# Altium integrated library TI Data Converters Analog to Digital Converter.IntLib: 2198 symbols (part 152 of 164)
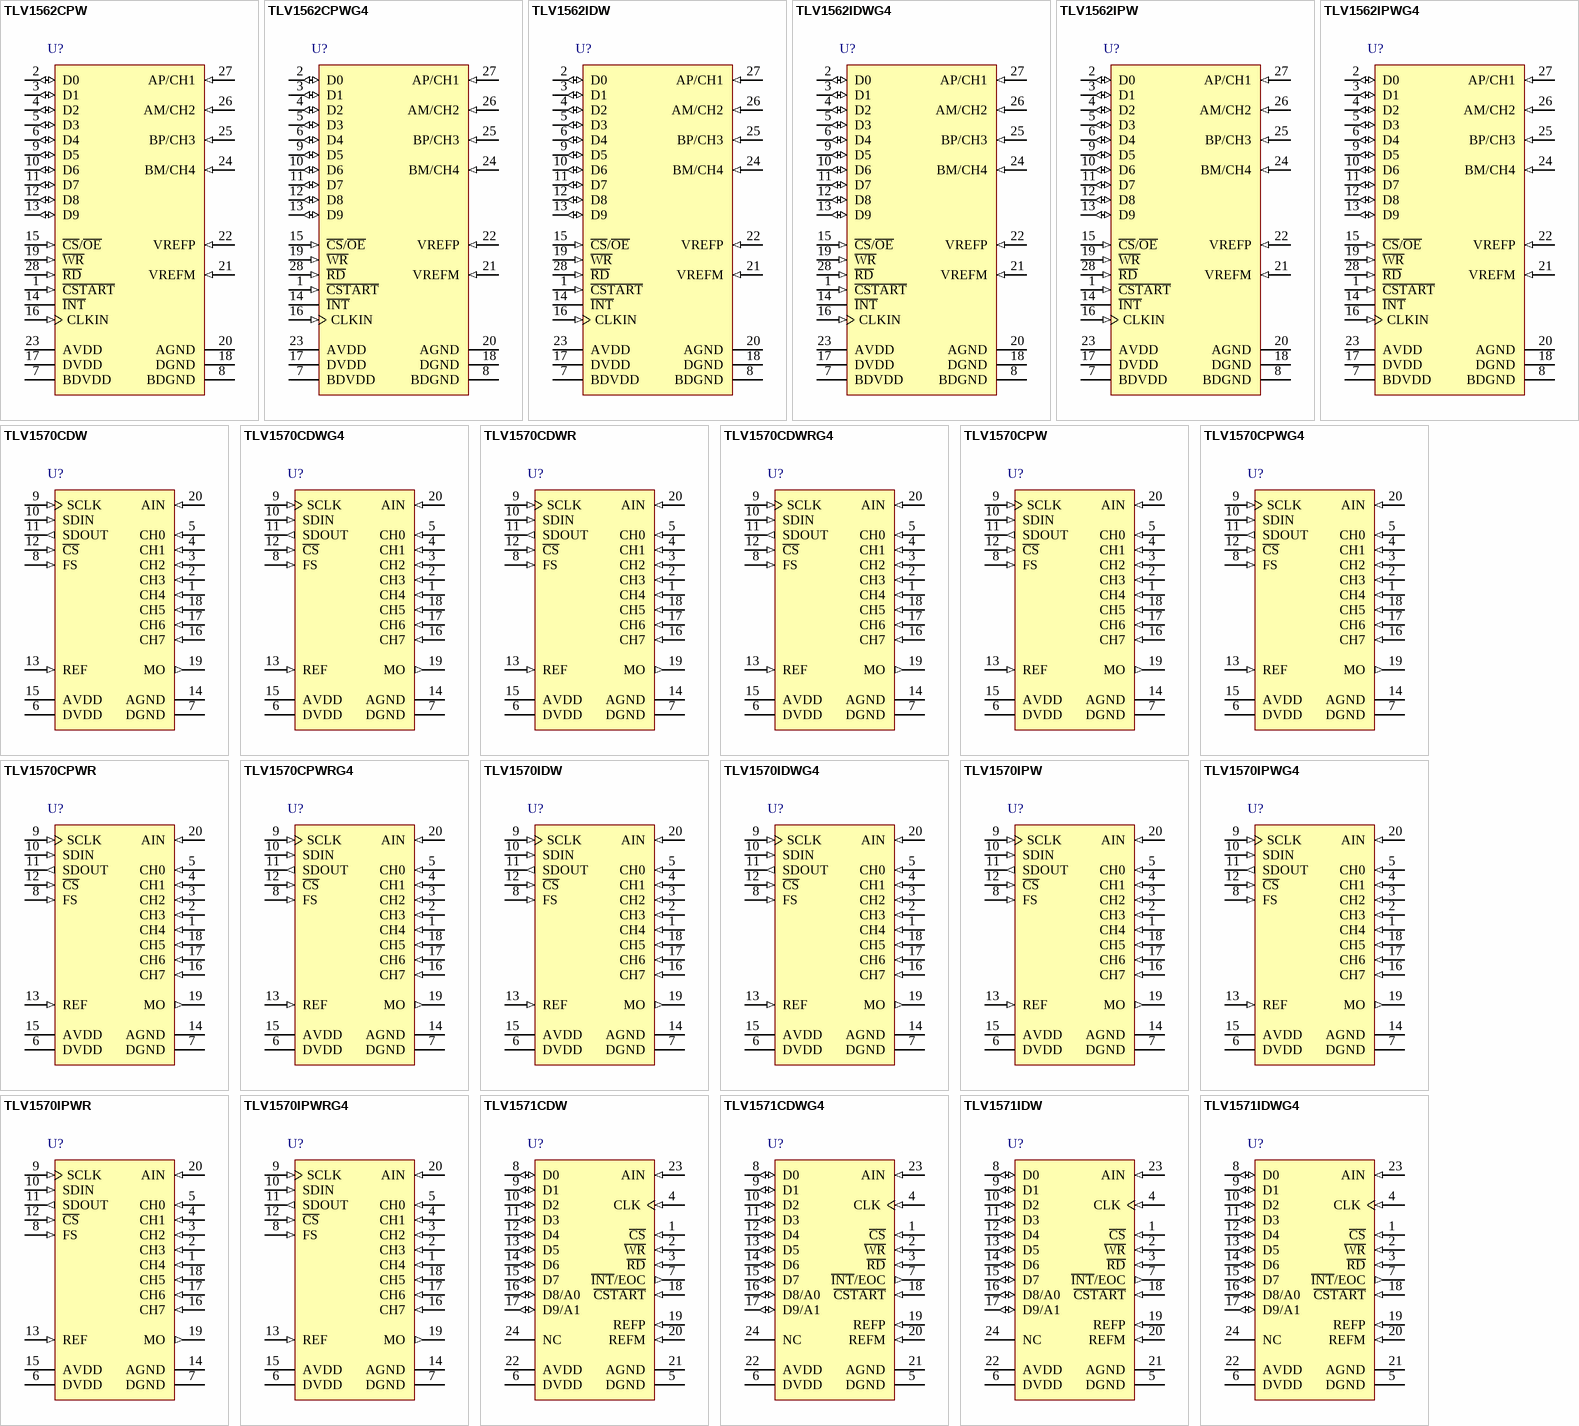
[diagram p277: symbols TLV1562CPW to TLV1571IDWG4]

## TLV1562IPW
designator U?
2.7 to 5.5 V, High-Speed Low-Power Reconfigurable ADC with 4-Input, Dual S/H, Parallel Interface, and Power Down, -40 to 85 degC, 28-pin SOP (PW28), Green (RoHS & no Sb/Br); Manufacturer: Texas Instruments; PartNumber: TLV1562IPW; # Input Channels: 4; Analog Voltage AV/DD(Max)(V): 5.5; Analog Voltage AV/DD(Min)(V): 2.7; Architecture: Pipeline; ENOB(Bits): 9.4; INL(Max)(+/-LSB): 1.5; Interface: Parallel CMOS; Resolution(Bits): 10; Sample Rate (max)(SPS): 2M; SFDR(dB): 70.3; SINAD(dB): 57.8; SNR(dB): 58.1; SubFamily: Precision ADC (<=10MSPS); DatasheetVersion: SLAS162; PackageVersion: 4040064-7/G, 02/2011; PackageReference: PW28; PackageDescription: 28-Pin Plastic Small Outline, Body 9.7 x 4.4 mm, Pitch 0.65 mm; Supplier 1: Digi-Key; Supplier Part Number 1: 296-25860-2-ND; Digital Supply(Max)(V): 5.5; Digital Supply(Min)(V): 2.7; Eco-Plan: Green (RoHS & no Sb/Br); Mounting Technology: Surface Mount; Code_JEDEC: MO-153; ComponentLink1Description: Manufacturer URL; ComponentLink1URL: http://www.ti.com/; ComponentLink2Description: Datasheet; ComponentLink2URL: http://www.ti.com/general/docs/lit/getliterature.tsp?genericPartNumber=TLV1562&fileType=pdf; ComponentLink3Description: Package Specification; ComponentLink3URL: http://www.ti.com/litv/pdf/mpds364
footprint TI-PW28_N (SOP, 28-Leads, Body 9.7x4.4mm, Pitch 0.65mm, IPC Medium Density)
footprint TI-PW28_L (SOP, 28-Leads, Body 9.7x4.4mm, Pitch 0.65mm, IPC High Density)
footprint TI-PW28_M (SOP, 28-Leads, Body 9.7x4.4mm, Pitch 0.65mm, IPC Low Density)
pins: 1 ~{CSTART} (in) "Conversion start signal. A falling edge starts the sampling period and a rising edge starts the conversion. This signal acts without C\S\ activated. C\S\T\A\R\T\ connects to DVDD via a 10-kohm pull-up resistor if not used", 2 D0 (io) "The lower bits of the 3-state parallel data bus. Bidirectional. The data bus is 3-stated except when R\D\ or W\R\ is low when C\S\ is low.", 3 D1 (io) "The lower bits of the 3-state parallel data bus. Bidirectional. The data bus is 3-stated except when R\D\ or W\R\ is low when C\S\ is low.", 4 D2 (io) "The lower bits of the 3-state parallel data bus. Bidirectional. The data bus is 3-stated except when R\D\ or W\R\ is low when C\S\ is low.", 5 D3 (io) "The lower bits of the 3-state parallel data bus. Bidirectional. The data bus is 3-stated except when R\D\ or W\R\ is low when C\S\ is low.", 6 D4 (io) "The lower bits of the 3-state parallel data bus. Bidirectional. The data bus is 3-stated except when R\D\ or W\R\ is low when C\S\ is low.", 7 BDVDD (power) "Positive digital supply voltage for I/O buffers", 8 BDGND (power) "Digital ground return for the I/O buffers. Unless otherwise noted, all digital interface voltage measurements are with respect to DGND.", 9 D5 (io) "The higher bits of the 3-state parallel data bus. Bidirectional. The data bus is 3-stated except when R\D\ or W\R\ is low when C\S\ is low. When the host processor writes to the converter, D(9,8) are used as an index to the (See Datasheet)", 10 D6 (io) "The higher bits of the 3-state parallel data bus. Bidirectional. The data bus is 3-stated except when R\D\ or W\R\ is low when C\S\ is low. When the host processor writes to the converter, D(9,8) are used as an index to the (See Datasheet)", 11 D7 (io) "The higher bits of the 3-state parallel data bus. Bidirectional. The data bus is 3-stated except when R\D\ or W\R\ is low when C\S\ is low. When the host processor writes to the converter, D(9,8) are used as an index to the (See Datasheet)", 12 D8 (io) "The higher bits of the 3-state parallel data bus. Bidirectional. The data bus is 3-stated except when R\D\ or W\R\ is low when C\S\ is low. When the host processor writes to the converter, D(9,8) are used as an index to the (See Datasheet)", 13 D9 (io) "The higher bits of the 3-state parallel data bus. Bidirectional. The data bus is 3-stated except when R\D\ or W\R\ is low when C\S\ is low. When the host processor writes to the converter, D(9,8) are used as an index to the (See Datasheet)", 14 ~{INT} (hiz) "Interrupt output. The falling edge of I\N\T\ signals the end of conversion. This output goes from a high impedance state to low logic level on the fifth falling edge of the system clock and remains low until reset by the (See Datasheet)", 15 ~{CS}/~{OE} (in) "Chip select. A high-to-low transition on this input resets the internal counters and controls and enables the output data bus D(0-9) and control inputs (R\D\, W\R\) within a maximum setup time. A low-to-high transition (See Datasheet)", 16 CLKIN (in) "External clock input. (1 MHz to 15 MHz)", 17 DVDD (power) "Positive digital supply voltage", 18 DGND (power) "Digital ground return for the internal digital logic circuitry", 19 ~{WR} (in) "Processor write strobe. Active low. Connection of a 10-k ohm pull-up resistor is optional.", 20 AGND (power) "Analog ground return for the internal circuitry. Unless otherwise noted, all analog voltage measurements are with respect to AGND.", 21 VREFM (in) "The lower voltage reference value is applied to this terminal.", 22 VREFP (in) "The upper reference voltage value is applied to this terminal. The maximum input voltage range is determined by the difference between the voltage applied to this terminal and the VREFM terminal.", 23 AVDD (power) "Positive analog supply voltage", 24 BM/CH4 (in) "Differential channel B input minus or single-ended channel 4", 25 BP/CH3 (in) "Differential channel B input plus or single-ended channel 3", 26 AM/CH2 (in) "Differential channel A input minus or single-ended channel 2", 27 AP/CH1 (in) "Differential channel A input plus or single-ended channel 1", 28 ~{RD} (in) "Processor read strobe or synchronous start of conversion/sampling. The falling edge of R\D\ is used to 1) start the conversion in interrupt-driven mode (if R\D\ is programmed as the start conversion signal); 2) start both (See Datasheet)"

## TLV1562IPWG4
designator U?
2.7 to 5.5 V, High-Speed Low-Power Reconfigurable ADC with 4-Input, Dual S/H, Parallel Interface, and Power Down, -40 to 85 degC, 28-pin SOP (PW28), Green (RoHS & no Sb/Br); Manufacturer: Texas Instruments; PartNumber: TLV1562IPWG4; # Input Channels: 4; Analog Voltage AV/DD(Max)(V): 5.5; Analog Voltage AV/DD(Min)(V): 2.7; Architecture: Pipeline; ENOB(Bits): 9.4; INL(Max)(+/-LSB): 1.5; Interface: Parallel CMOS; Resolution(Bits): 10; Sample Rate (max)(SPS): 2M; SFDR(dB): 70.3; SINAD(dB): 57.8; SNR(dB): 58.1; SubFamily: Precision ADC (<=10MSPS); DatasheetVersion: SLAS162; PackageVersion: 4040064-7/G, 02/2011; PackageReference: PW28; PackageDescription: 28-Pin Plastic Small Outline, Body 9.7 x 4.4 mm, Pitch 0.65 mm; Supplier 1: Digi-Key; Supplier Part Number 1: 296-25827-2-ND; Digital Supply(Max)(V): 5.5; Digital Supply(Min)(V): 2.7; Eco-Plan: Green (RoHS & no Sb/Br); Mounting Technology: Surface Mount; Code_JEDEC: MO-153; ComponentLink1Description: Manufacturer URL; ComponentLink1URL: http://www.ti.com/; ComponentLink2Description: Datasheet; ComponentLink2URL: http://www.ti.com/general/docs/lit/getliterature.tsp?genericPartNumber=TLV1562&fileType=pdf; ComponentLink3Description: Package Specification; ComponentLink3URL: http://www.ti.com/litv/pdf/mpds364
footprint TI-PW28_N (SOP, 28-Leads, Body 9.7x4.4mm, Pitch 0.65mm, IPC Medium Density)
footprint TI-PW28_L (SOP, 28-Leads, Body 9.7x4.4mm, Pitch 0.65mm, IPC High Density)
footprint TI-PW28_M (SOP, 28-Leads, Body 9.7x4.4mm, Pitch 0.65mm, IPC Low Density)
pins: 1 ~{CSTART} (in) "Conversion start signal. A falling edge starts the sampling period and a rising edge starts the conversion. This signal acts without C\S\ activated. C\S\T\A\R\T\ connects to DVDD via a 10-kohm pull-up resistor if not used", 2 D0 (io) "The lower bits of the 3-state parallel data bus. Bidirectional. The data bus is 3-stated except when R\D\ or W\R\ is low when C\S\ is low.", 3 D1 (io) "The lower bits of the 3-state parallel data bus. Bidirectional. The data bus is 3-stated except when R\D\ or W\R\ is low when C\S\ is low.", 4 D2 (io) "The lower bits of the 3-state parallel data bus. Bidirectional. The data bus is 3-stated except when R\D\ or W\R\ is low when C\S\ is low.", 5 D3 (io) "The lower bits of the 3-state parallel data bus. Bidirectional. The data bus is 3-stated except when R\D\ or W\R\ is low when C\S\ is low.", 6 D4 (io) "The lower bits of the 3-state parallel data bus. Bidirectional. The data bus is 3-stated except when R\D\ or W\R\ is low when C\S\ is low.", 7 BDVDD (power) "Positive digital supply voltage for I/O buffers", 8 BDGND (power) "Digital ground return for the I/O buffers. Unless otherwise noted, all digital interface voltage measurements are with respect to DGND.", 9 D5 (io) "The higher bits of the 3-state parallel data bus. Bidirectional. The data bus is 3-stated except when R\D\ or W\R\ is low when C\S\ is low. When the host processor writes to the converter, D(9,8) are used as an index to the (See Datasheet)", 10 D6 (io) "The higher bits of the 3-state parallel data bus. Bidirectional. The data bus is 3-stated except when R\D\ or W\R\ is low when C\S\ is low. When the host processor writes to the converter, D(9,8) are used as an index to the (See Datasheet)", 11 D7 (io) "The higher bits of the 3-state parallel data bus. Bidirectional. The data bus is 3-stated except when R\D\ or W\R\ is low when C\S\ is low. When the host processor writes to the converter, D(9,8) are used as an index to the (See Datasheet)", 12 D8 (io) "The higher bits of the 3-state parallel data bus. Bidirectional. The data bus is 3-stated except when R\D\ or W\R\ is low when C\S\ is low. When the host processor writes to the converter, D(9,8) are used as an index to the (See Datasheet)", 13 D9 (io) "The higher bits of the 3-state parallel data bus. Bidirectional. The data bus is 3-stated except when R\D\ or W\R\ is low when C\S\ is low. When the host processor writes to the converter, D(9,8) are used as an index to the (See Datasheet)", 14 ~{INT} (hiz) "Interrupt output. The falling edge of I\N\T\ signals the end of conversion. This output goes from a high impedance state to low logic level on the fifth falling edge of the system clock and remains low until reset by the (See Datasheet)", 15 ~{CS}/~{OE} (in) "Chip select. A high-to-low transition on this input resets the internal counters and controls and enables the output data bus D(0-9) and control inputs (R\D\, W\R\) within a maximum setup time. A low-to-high transition (See Datasheet)", 16 CLKIN (in) "External clock input. (1 MHz to 15 MHz)", 17 DVDD (power) "Positive digital supply voltage", 18 DGND (power) "Digital ground return for the internal digital logic circuitry", 19 ~{WR} (in) "Processor write strobe. Active low. Connection of a 10-k ohm pull-up resistor is optional.", 20 AGND (power) "Analog ground return for the internal circuitry. Unless otherwise noted, all analog voltage measurements are with respect to AGND.", 21 VREFM (in) "The lower voltage reference value is applied to this terminal.", 22 VREFP (in) "The upper reference voltage value is applied to this terminal. The maximum input voltage range is determined by the difference between the voltage applied to this terminal and the VREFM terminal.", 23 AVDD (power) "Positive analog supply voltage", 24 BM/CH4 (in) "Differential channel B input minus or single-ended channel 4", 25 BP/CH3 (in) "Differential channel B input plus or single-ended channel 3", 26 AM/CH2 (in) "Differential channel A input minus or single-ended channel 2", 27 AP/CH1 (in) "Differential channel A input plus or single-ended channel 1", 28 ~{RD} (in) "Processor read strobe or synchronous start of conversion/sampling. The falling edge of R\D\ is used to 1) start the conversion in interrupt-driven mode (if R\D\ is programmed as the start conversion signal); 2) start both (See Datasheet)"

## TLV1570CDW
designator U?
10-Bit, 1.25 MSPS ADC 8-Channel, DSP / (Q)SPI IF, Programmable Internal Reference, Auto or Software Power Down, Very Low Power, 0 to 70 degC, 20-pin SOIC (DW20), Green (RoHS & no Sb/Br); Manufacturer: Texas Instruments; PartNumber: TLV1570CDW; # Input Channels: 8; Analog Voltage AV/DD(Max)(V): 5.5; Analog Voltage AV/DD(Min)(V): 2.7; Architecture: SAR; ENOB(Bits): 9.3; INL(Max)(+/-LSB): 1; Interface: Serial SPI; Resolution(Bits): 10; Sample Rate (max)(SPS): 1.25M; SFDR(dB): 63; SINAD(dB): 58; SNR(dB): 61; SubFamily: Precision ADC (<=10MSPS); DatasheetVersion: SLAS169B; PackageVersion: 4040000-4/G, 01/2011; PackageReference: DW20; PackageDescription: 20-Pin Plastic Small Outline, Body 12.8 x 7.5 mm, Pitch 1.27 mm; Supplier 1: Digi-Key; Supplier Part Number 1: 296-28118-ND; Digital Supply(Max)(V): 5.5; Digital Supply(Min)(V): 2.7; Eco-Plan: Green (RoHS & no Sb/Br); Mounting Technology: Surface Mount; Code_JEDEC: MO-013; ComponentLink1Description: Manufacturer URL; ComponentLink1URL: http://www.ti.com/; ComponentLink2Description: Datasheet; ComponentLink2URL: http://www.ti.com/general/docs/lit/getliterature.tsp?genericPartNumber=TLV1570&fileType=pdf; ComponentLink3Description: Package Specification; ComponentLink3URL: http://www.ti.com/lit/ml/mpds173a/mpds173a.pdf
footprint TI-DW20_N (SOIC, 20-Leads, Body 12.8x7.5mm, Pitch 1.27mm, IPC Medium Density)
footprint TI-DW20_L (SOIC, 20-Leads, Body 12.8x7.5mm, Pitch 1.27mm, IPC High Density)
footprint TI-DW20_M (SOIC, 20-Leads, Body 12.8x7.5mm, Pitch 1.27mm, IPC Low Density)
pins: 1 CH4 (in) "Analog input channels 0 - 7", 2 CH3 (in) "Analog input channels 0 - 7", 3 CH2 (in) "Analog input channels 0 - 7", 4 CH1 (in) "Analog input channels 0 - 7", 5 CH0 (in) "Analog input channels 0 - 7", 6 DVDD (power) "Digital supply voltage, 2.7 V to 5.5 V", 7 DGND (power) "Digital ground", 8 FS (in) "Frame sync. The falling edge of the frame sync pulse from a DSP indicates the start of a serial data frame shifted out of the TLV1570. FS is pulled high when interfaced to a microcontroller.", 9 SCLK (in) "Serial clock input. SCLK synchronizes the serial data transfer and is also used for internal data conversion.", 10 SDIN (in) "Serial data input used to configure the internal control register.", 11 SDOUT (out) "Serial data output. A/D conversion results are output at SDOUT.", 12 ~{CS} (in) "Chip select. A low level signal on C\S\ enables the TLV1570. A high level signal on C\S\ disables the device and disconnects power to the TLV1570.", 13 REF (in) "Reference voltage input. The voltage applied to REF defines the input span of the TLV1570. In external reference mode, a 0.1 uF decoupling capacitor must be placed between the reference and AGND. This is not required for (See Datasheet)", 14 AGND (power) "Analog ground", 15 AVDD (power) "Analog supply voltage, 2.7 V to 5.5 V", 16 CH7 (in) "Analog input channels 0 - 7", 17 CH6 (in) "Analog input channels 0 - 7", 18 CH5 (in) "Analog input channels 0 - 7", 19 MO (out) "On-chip MUX analog output", 20 AIN (in) "ADC analog input"

## TLV1570CDWG4
designator U?
10-Bit, 1.25 MSPS ADC 8-Channel, DSP / (Q)SPI IF, Programmable Internal Reference, Auto or Software Power Down, Very Low Power, 0 to 70 degC, 20-pin SOIC (DW20), Green (RoHS & no Sb/Br); Manufacturer: Texas Instruments; PartNumber: TLV1570CDWG4; # Input Channels: 8; Analog Voltage AV/DD(Max)(V): 5.5; Analog Voltage AV/DD(Min)(V): 2.7; Architecture: SAR; ENOB(Bits): 9.3; INL(Max)(+/-LSB): 1; Interface: Serial SPI; Resolution(Bits): 10; Sample Rate (max)(SPS): 1.25M; SFDR(dB): 63; SINAD(dB): 58; SNR(dB): 61; SubFamily: Precision ADC (<=10MSPS); DatasheetVersion: SLAS169B; PackageVersion: 4040000-4/G, 01/2011; PackageReference: DW20; PackageDescription: 20-Pin Plastic Small Outline, Body 12.8 x 7.5 mm, Pitch 1.27 mm; Supplier 1: Digi-Key; Supplier Part Number 1: ADS8331IPWR-ND; Digital Supply(Max)(V): 5.5; Digital Supply(Min)(V): 2.7; Eco-Plan: Green (RoHS & no Sb/Br); Mounting Technology: Surface Mount; Code_JEDEC: MO-013; ComponentLink1Description: Manufacturer URL; ComponentLink1URL: http://www.ti.com/; ComponentLink2Description: Datasheet; ComponentLink2URL: http://www.ti.com/general/docs/lit/getliterature.tsp?genericPartNumber=TLV1570&fileType=pdf; ComponentLink3Description: Package Specification; ComponentLink3URL: http://www.ti.com/lit/ml/mpds173a/mpds173a.pdf
footprint TI-DW20_N (SOIC, 20-Leads, Body 12.8x7.5mm, Pitch 1.27mm, IPC Medium Density)
footprint TI-DW20_L (SOIC, 20-Leads, Body 12.8x7.5mm, Pitch 1.27mm, IPC High Density)
footprint TI-DW20_M (SOIC, 20-Leads, Body 12.8x7.5mm, Pitch 1.27mm, IPC Low Density)
pins: 1 CH4 (in) "Analog input channels 0 - 7", 2 CH3 (in) "Analog input channels 0 - 7", 3 CH2 (in) "Analog input channels 0 - 7", 4 CH1 (in) "Analog input channels 0 - 7", 5 CH0 (in) "Analog input channels 0 - 7", 6 DVDD (power) "Digital supply voltage, 2.7 V to 5.5 V", 7 DGND (power) "Digital ground", 8 FS (in) "Frame sync. The falling edge of the frame sync pulse from a DSP indicates the start of a serial data frame shifted out of the TLV1570. FS is pulled high when interfaced to a microcontroller.", 9 SCLK (in) "Serial clock input. SCLK synchronizes the serial data transfer and is also used for internal data conversion.", 10 SDIN (in) "Serial data input used to configure the internal control register.", 11 SDOUT (out) "Serial data output. A/D conversion results are output at SDOUT.", 12 ~{CS} (in) "Chip select. A low level signal on C\S\ enables the TLV1570. A high level signal on C\S\ disables the device and disconnects power to the TLV1570.", 13 REF (in) "Reference voltage input. The voltage applied to REF defines the input span of the TLV1570. In external reference mode, a 0.1 uF decoupling capacitor must be placed between the reference and AGND. This is not required for (See Datasheet)", 14 AGND (power) "Analog ground", 15 AVDD (power) "Analog supply voltage, 2.7 V to 5.5 V", 16 CH7 (in) "Analog input channels 0 - 7", 17 CH6 (in) "Analog input channels 0 - 7", 18 CH5 (in) "Analog input channels 0 - 7", 19 MO (out) "On-chip MUX analog output", 20 AIN (in) "ADC analog input"

## TLV1570CDWR
designator U?
10-Bit, 1.25 MSPS ADC 8-Channel, DSP / (Q)SPI IF, Programmable Internal Reference, Auto or Software Power Down, Very Low Power, 0 to 70 degC, 20-pin SOIC (DW20), Green (RoHS & no Sb/Br); Manufacturer: Texas Instruments; PartNumber: TLV1570CDWR; # Input Channels: 8; Analog Voltage AV/DD(Max)(V): 5.5; Analog Voltage AV/DD(Min)(V): 2.7; Architecture: SAR; ENOB(Bits): 9.3; INL(Max)(+/-LSB): 1; Interface: Serial SPI; Resolution(Bits): 10; Sample Rate (max)(SPS): 1.25M; SFDR(dB): 63; SINAD(dB): 58; SNR(dB): 61; SubFamily: Precision ADC (<=10MSPS); DatasheetVersion: SLAS169B; PackageVersion: 4040000-4/G, 01/2011; PackageReference: DW20; PackageDescription: 20-Pin Plastic Small Outline, Body 12.8 x 7.5 mm, Pitch 1.27 mm; Supplier 1: Digi-Key; Supplier Part Number 1: 296-25861-2-ND; Digital Supply(Max)(V): 5.5; Digital Supply(Min)(V): 2.7; Eco-Plan: Green (RoHS & no Sb/Br); Mounting Technology: Surface Mount; Code_JEDEC: MO-013; ComponentLink1Description: Manufacturer URL; ComponentLink1URL: http://www.ti.com/; ComponentLink2Description: Datasheet; ComponentLink2URL: http://www.ti.com/general/docs/lit/getliterature.tsp?genericPartNumber=TLV1570&fileType=pdf; ComponentLink3Description: Package Specification; ComponentLink3URL: http://www.ti.com/lit/ml/mpds173a/mpds173a.pdf
footprint TI-DW20_N (SOIC, 20-Leads, Body 12.8x7.5mm, Pitch 1.27mm, IPC Medium Density)
footprint TI-DW20_L (SOIC, 20-Leads, Body 12.8x7.5mm, Pitch 1.27mm, IPC High Density)
footprint TI-DW20_M (SOIC, 20-Leads, Body 12.8x7.5mm, Pitch 1.27mm, IPC Low Density)
pins: 1 CH4 (in) "Analog input channels 0 - 7", 2 CH3 (in) "Analog input channels 0 - 7", 3 CH2 (in) "Analog input channels 0 - 7", 4 CH1 (in) "Analog input channels 0 - 7", 5 CH0 (in) "Analog input channels 0 - 7", 6 DVDD (power) "Digital supply voltage, 2.7 V to 5.5 V", 7 DGND (power) "Digital ground", 8 FS (in) "Frame sync. The falling edge of the frame sync pulse from a DSP indicates the start of a serial data frame shifted out of the TLV1570. FS is pulled high when interfaced to a microcontroller.", 9 SCLK (in) "Serial clock input. SCLK synchronizes the serial data transfer and is also used for internal data conversion.", 10 SDIN (in) "Serial data input used to configure the internal control register.", 11 SDOUT (out) "Serial data output. A/D conversion results are output at SDOUT.", 12 ~{CS} (in) "Chip select. A low level signal on C\S\ enables the TLV1570. A high level signal on C\S\ disables the device and disconnects power to the TLV1570.", 13 REF (in) "Reference voltage input. The voltage applied to REF defines the input span of the TLV1570. In external reference mode, a 0.1 uF decoupling capacitor must be placed between the reference and AGND. This is not required for (See Datasheet)", 14 AGND (power) "Analog ground", 15 AVDD (power) "Analog supply voltage, 2.7 V to 5.5 V", 16 CH7 (in) "Analog input channels 0 - 7", 17 CH6 (in) "Analog input channels 0 - 7", 18 CH5 (in) "Analog input channels 0 - 7", 19 MO (out) "On-chip MUX analog output", 20 AIN (in) "ADC analog input"

## TLV1570CDWRG4
designator U?
10-Bit, 1.25 MSPS ADC 8-Channel, DSP / (Q)SPI IF, Programmable Internal Reference, Auto or Software Power Down, Very Low Power, 0 to 70 degC, 20-pin SOIC (DW20), Green (RoHS & no Sb/Br); Manufacturer: Texas Instruments; PartNumber: TLV1570CDWRG4; # Input Channels: 8; Analog Voltage AV/DD(Max)(V): 5.5; Analog Voltage AV/DD(Min)(V): 2.7; Architecture: SAR; ENOB(Bits): 9.3; INL(Max)(+/-LSB): 1; Interface: Serial SPI; Resolution(Bits): 10; Sample Rate (max)(SPS): 1.25M; SFDR(dB): 63; SINAD(dB): 58; SNR(dB): 61; SubFamily: Precision ADC (<=10MSPS); DatasheetVersion: SLAS169B; PackageVersion: 4040000-4/G, 01/2011; PackageReference: DW20; PackageDescription: 20-Pin Plastic Small Outline, Body 12.8 x 7.5 mm, Pitch 1.27 mm; Supplier 1: Digi-Key; Supplier Part Number 1: 296-25862-2-ND; Digital Supply(Max)(V): 5.5; Digital Supply(Min)(V): 2.7; Eco-Plan: Green (RoHS & no Sb/Br); Mounting Technology: Surface Mount; Code_JEDEC: MO-013; ComponentLink1Description: Manufacturer URL; ComponentLink1URL: http://www.ti.com/; ComponentLink2Description: Datasheet; ComponentLink2URL: http://www.ti.com/general/docs/lit/getliterature.tsp?genericPartNumber=TLV1570&fileType=pdf; ComponentLink3Description: Package Specification; ComponentLink3URL: http://www.ti.com/lit/ml/mpds173a/mpds173a.pdf
footprint TI-DW20_N (SOIC, 20-Leads, Body 12.8x7.5mm, Pitch 1.27mm, IPC Medium Density)
footprint TI-DW20_L (SOIC, 20-Leads, Body 12.8x7.5mm, Pitch 1.27mm, IPC High Density)
footprint TI-DW20_M (SOIC, 20-Leads, Body 12.8x7.5mm, Pitch 1.27mm, IPC Low Density)
pins: 1 CH4 (in) "Analog input channels 0 - 7", 2 CH3 (in) "Analog input channels 0 - 7", 3 CH2 (in) "Analog input channels 0 - 7", 4 CH1 (in) "Analog input channels 0 - 7", 5 CH0 (in) "Analog input channels 0 - 7", 6 DVDD (power) "Digital supply voltage, 2.7 V to 5.5 V", 7 DGND (power) "Digital ground", 8 FS (in) "Frame sync. The falling edge of the frame sync pulse from a DSP indicates the start of a serial data frame shifted out of the TLV1570. FS is pulled high when interfaced to a microcontroller.", 9 SCLK (in) "Serial clock input. SCLK synchronizes the serial data transfer and is also used for internal data conversion.", 10 SDIN (in) "Serial data input used to configure the internal control register.", 11 SDOUT (out) "Serial data output. A/D conversion results are output at SDOUT.", 12 ~{CS} (in) "Chip select. A low level signal on C\S\ enables the TLV1570. A high level signal on C\S\ disables the device and disconnects power to the TLV1570.", 13 REF (in) "Reference voltage input. The voltage applied to REF defines the input span of the TLV1570. In external reference mode, a 0.1 uF decoupling capacitor must be placed between the reference and AGND. This is not required for (See Datasheet)", 14 AGND (power) "Analog ground", 15 AVDD (power) "Analog supply voltage, 2.7 V to 5.5 V", 16 CH7 (in) "Analog input channels 0 - 7", 17 CH6 (in) "Analog input channels 0 - 7", 18 CH5 (in) "Analog input channels 0 - 7", 19 MO (out) "On-chip MUX analog output", 20 AIN (in) "ADC analog input"

## TLV1570CPW
designator U?
10-Bit, 1.25 MSPS ADC 8-Channel, DSP / (Q)SPI IF, Programmable Internal Reference, Auto or Software Power Down, Very Low Power, 0 to 70 degC, 20-pin SOP (PW20), Green (RoHS & no Sb/Br); Manufacturer: Texas Instruments; PartNumber: TLV1570CPW; # Input Channels: 8; Analog Voltage AV/DD(Max)(V): 5.5; Analog Voltage AV/DD(Min)(V): 2.7; Architecture: SAR; ENOB(Bits): 9.3; INL(Max)(+/-LSB): 1; Interface: Serial SPI; Resolution(Bits): 10; Sample Rate (max)(SPS): 1.25M; SFDR(dB): 63; SINAD(dB): 58; SNR(dB): 61; SubFamily: Precision ADC (<=10MSPS); DatasheetVersion: SLAS169B; PackageVersion: 4040064-5/G, 02/2011; PackageReference: PW20; PackageDescription: 20-Pin Plastic Small Outline, Body 6.5 x 4.4 mm, Pitch 0.65 mm; Supplier 1: Digi-Key; Supplier Part Number 1: ADS7263SRHBR-ND; Digital Supply(Max)(V): 5.5; Digital Supply(Min)(V): 2.7; Eco-Plan: Green (RoHS & no Sb/Br); Mounting Technology: Surface Mount; Code_JEDEC: MO-153; ComponentLink1Description: Manufacturer URL; ComponentLink1URL: http://www.ti.com/; ComponentLink2Description: Datasheet; ComponentLink2URL: http://www.ti.com/general/docs/lit/getliterature.tsp?genericPartNumber=TLV1570&fileType=pdf; ComponentLink3Description: Package Specification; ComponentLink3URL: http://www.ti.com.cn/cn/lit/ml/mpds362/mpds362.pdf
footprint TI-PW20_N (SOP, 20-Leads, Body 6.5x4.4mm, Pitch 0.65mm, IPC Medium Density)
footprint TI-PW20_L (SOP, 20-Leads, Body 6.5x4.4mm, Pitch 0.65mm, IPC High Density)
footprint TI-PW20_M (SOP, 20-Leads, Body 6.5x4.4mm, Pitch 0.65mm, IPC Low Density)
pins: 1 CH4 (in) "Analog input channels 0 - 7", 2 CH3 (in) "Analog input channels 0 - 7", 3 CH2 (in) "Analog input channels 0 - 7", 4 CH1 (in) "Analog input channels 0 - 7", 5 CH0 (in) "Analog input channels 0 - 7", 6 DVDD (power) "Digital supply voltage, 2.7 V to 5.5 V", 7 DGND (power) "Digital ground", 8 FS (in) "Frame sync. The falling edge of the frame sync pulse from a DSP indicates the start of a serial data frame shifted out of the TLV1570. FS is pulled high when interfaced to a microcontroller.", 9 SCLK (in) "Serial clock input. SCLK synchronizes the serial data transfer and is also used for internal data conversion.", 10 SDIN (in) "Serial data input used to configure the internal control register.", 11 SDOUT (out) "Serial data output. A/D conversion results are output at SDOUT.", 12 ~{CS} (in) "Chip select. A low level signal on C\S\ enables the TLV1570. A high level signal on C\S\ disables the device and disconnects power to the TLV1570.", 13 REF (in) "Reference voltage input. The voltage applied to REF defines the input span of the TLV1570. In external reference mode, a 0.1 uF decoupling capacitor must be placed between the reference and AGND. This is not required for (See Datasheet)", 14 AGND (power) "Analog ground", 15 AVDD (power) "Analog supply voltage, 2.7 V to 5.5 V", 16 CH7 (in) "Analog input channels 0 - 7", 17 CH6 (in) "Analog input channels 0 - 7", 18 CH5 (in) "Analog input channels 0 - 7", 19 MO (out) "On-chip MUX analog output", 20 AIN (in) "ADC analog input"

## TLV1570CPWG4
designator U?
10-Bit, 1.25 MSPS ADC 8-Channel, DSP / (Q)SPI IF, Programmable Internal Reference, Auto or Software Power Down, Very Low Power, 0 to 70 degC, 20-pin SOP (PW20), Green (RoHS & no Sb/Br); Manufacturer: Texas Instruments; PartNumber: TLV1570CPWG4; # Input Channels: 8; Analog Voltage AV/DD(Max)(V): 5.5; Analog Voltage AV/DD(Min)(V): 2.7; Architecture: SAR; ENOB(Bits): 9.3; INL(Max)(+/-LSB): 1; Interface: Serial SPI; Resolution(Bits): 10; Sample Rate (max)(SPS): 1.25M; SFDR(dB): 63; SINAD(dB): 58; SNR(dB): 61; SubFamily: Precision ADC (<=10MSPS); DatasheetVersion: SLAS169B; PackageVersion: 4040064-5/G, 02/2011; PackageReference: PW20; PackageDescription: 20-Pin Plastic Small Outline, Body 6.5 x 4.4 mm, Pitch 0.65 mm; Supplier 1: Digi-Key; Supplier Part Number 1: 296-28187-2-ND; Digital Supply(Max)(V): 5.5; Digital Supply(Min)(V): 2.7; Eco-Plan: Green (RoHS & no Sb/Br); Mounting Technology: Surface Mount; Code_JEDEC: MO-153; ComponentLink1Description: Manufacturer URL; ComponentLink1URL: http://www.ti.com/; ComponentLink2Description: Datasheet; ComponentLink2URL: http://www.ti.com/general/docs/lit/getliterature.tsp?genericPartNumber=TLV1570&fileType=pdf; ComponentLink3Description: Package Specification; ComponentLink3URL: http://www.ti.com.cn/cn/lit/ml/mpds362/mpds362.pdf
footprint TI-PW20_N (SOP, 20-Leads, Body 6.5x4.4mm, Pitch 0.65mm, IPC Medium Density)
footprint TI-PW20_L (SOP, 20-Leads, Body 6.5x4.4mm, Pitch 0.65mm, IPC High Density)
footprint TI-PW20_M (SOP, 20-Leads, Body 6.5x4.4mm, Pitch 0.65mm, IPC Low Density)
pins: 1 CH4 (in) "Analog input channels 0 - 7", 2 CH3 (in) "Analog input channels 0 - 7", 3 CH2 (in) "Analog input channels 0 - 7", 4 CH1 (in) "Analog input channels 0 - 7", 5 CH0 (in) "Analog input channels 0 - 7", 6 DVDD (power) "Digital supply voltage, 2.7 V to 5.5 V", 7 DGND (power) "Digital ground", 8 FS (in) "Frame sync. The falling edge of the frame sync pulse from a DSP indicates the start of a serial data frame shifted out of the TLV1570. FS is pulled high when interfaced to a microcontroller.", 9 SCLK (in) "Serial clock input. SCLK synchronizes the serial data transfer and is also used for internal data conversion.", 10 SDIN (in) "Serial data input used to configure the internal control register.", 11 SDOUT (out) "Serial data output. A/D conversion results are output at SDOUT.", 12 ~{CS} (in) "Chip select. A low level signal on C\S\ enables the TLV1570. A high level signal on C\S\ disables the device and disconnects power to the TLV1570.", 13 REF (in) "Reference voltage input. The voltage applied to REF defines the input span of the TLV1570. In external reference mode, a 0.1 uF decoupling capacitor must be placed between the reference and AGND. This is not required for (See Datasheet)", 14 AGND (power) "Analog ground", 15 AVDD (power) "Analog supply voltage, 2.7 V to 5.5 V", 16 CH7 (in) "Analog input channels 0 - 7", 17 CH6 (in) "Analog input channels 0 - 7", 18 CH5 (in) "Analog input channels 0 - 7", 19 MO (out) "On-chip MUX analog output", 20 AIN (in) "ADC analog input"

## TLV1570CPWR
designator U?
10-Bit, 1.25 MSPS ADC 8-Channel, DSP / (Q)SPI IF, Programmable Internal Reference, Auto or Software Power Down, Very Low Power, 0 to 70 degC, 20-pin SOP (PW20), Green (RoHS & no Sb/Br); Manufacturer: Texas Instruments; PartNumber: TLV1570CPWR; # Input Channels: 8; Analog Voltage AV/DD(Max)(V): 5.5; Analog Voltage AV/DD(Min)(V): 2.7; Architecture: SAR; ENOB(Bits): 9.3; INL(Max)(+/-LSB): 1; Interface: Serial SPI; Resolution(Bits): 10; Sample Rate (max)(SPS): 1.25M; SFDR(dB): 63; SINAD(dB): 58; SNR(dB): 61; SubFamily: Precision ADC (<=10MSPS); DatasheetVersion: SLAS169B; PackageVersion: 4040064-5/G, 02/2011; PackageReference: PW20; PackageDescription: 20-Pin Plastic Small Outline, Body 6.5 x 4.4 mm, Pitch 0.65 mm; Supplier 1: Digi-Key; Supplier Part Number 1: 296-28267-5-ND; Digital Supply(Max)(V): 5.5; Digital Supply(Min)(V): 2.7; Eco-Plan: Green (RoHS & no Sb/Br); Mounting Technology: Surface Mount; Code_JEDEC: MO-153; ComponentLink1Description: Manufacturer URL; ComponentLink1URL: http://www.ti.com/; ComponentLink2Description: Datasheet; ComponentLink2URL: http://www.ti.com/general/docs/lit/getliterature.tsp?genericPartNumber=TLV1570&fileType=pdf; ComponentLink3Description: Package Specification; ComponentLink3URL: http://www.ti.com.cn/cn/lit/ml/mpds362/mpds362.pdf
footprint TI-PW20_N (SOP, 20-Leads, Body 6.5x4.4mm, Pitch 0.65mm, IPC Medium Density)
footprint TI-PW20_L (SOP, 20-Leads, Body 6.5x4.4mm, Pitch 0.65mm, IPC High Density)
footprint TI-PW20_M (SOP, 20-Leads, Body 6.5x4.4mm, Pitch 0.65mm, IPC Low Density)
pins: 1 CH4 (in) "Analog input channels 0 - 7", 2 CH3 (in) "Analog input channels 0 - 7", 3 CH2 (in) "Analog input channels 0 - 7", 4 CH1 (in) "Analog input channels 0 - 7", 5 CH0 (in) "Analog input channels 0 - 7", 6 DVDD (power) "Digital supply voltage, 2.7 V to 5.5 V", 7 DGND (power) "Digital ground", 8 FS (in) "Frame sync. The falling edge of the frame sync pulse from a DSP indicates the start of a serial data frame shifted out of the TLV1570. FS is pulled high when interfaced to a microcontroller.", 9 SCLK (in) "Serial clock input. SCLK synchronizes the serial data transfer and is also used for internal data conversion.", 10 SDIN (in) "Serial data input used to configure the internal control register.", 11 SDOUT (out) "Serial data output. A/D conversion results are output at SDOUT.", 12 ~{CS} (in) "Chip select. A low level signal on C\S\ enables the TLV1570. A high level signal on C\S\ disables the device and disconnects power to the TLV1570.", 13 REF (in) "Reference voltage input. The voltage applied to REF defines the input span of the TLV1570. In external reference mode, a 0.1 uF decoupling capacitor must be placed between the reference and AGND. This is not required for (See Datasheet)", 14 AGND (power) "Analog ground", 15 AVDD (power) "Analog supply voltage, 2.7 V to 5.5 V", 16 CH7 (in) "Analog input channels 0 - 7", 17 CH6 (in) "Analog input channels 0 - 7", 18 CH5 (in) "Analog input channels 0 - 7", 19 MO (out) "On-chip MUX analog output", 20 AIN (in) "ADC analog input"

## TLV1570CPWRG4
designator U?
10-Bit, 1.25 MSPS ADC 8-Channel, DSP / (Q)SPI IF, Programmable Internal Reference, Auto or Software Power Down, Very Low Power, 0 to 70 degC, 20-pin SOP (PW20), Green (RoHS & no Sb/Br); Manufacturer: Texas Instruments; PartNumber: TLV1570CPWRG4; # Input Channels: 8; Analog Voltage AV/DD(Max)(V): 5.5; Analog Voltage AV/DD(Min)(V): 2.7; Architecture: SAR; ENOB(Bits): 9.3; INL(Max)(+/-LSB): 1; Interface: Serial SPI; Resolution(Bits): 10; Sample Rate (max)(SPS): 1.25M; SFDR(dB): 63; SINAD(dB): 58; SNR(dB): 61; SubFamily: Precision ADC (<=10MSPS); DatasheetVersion: SLAS169B; PackageVersion: 4040064-5/G, 02/2011; PackageReference: PW20; PackageDescription: 20-Pin Plastic Small Outline, Body 6.5 x 4.4 mm, Pitch 0.65 mm; Supplier 1: Digi-Key; Supplier Part Number 1: ADS8332IBPWR-ND; Digital Supply(Max)(V): 5.5; Digital Supply(Min)(V): 2.7; Eco-Plan: Green (RoHS & no Sb/Br); Mounting Technology: Surface Mount; Code_JEDEC: MO-153; ComponentLink1Description: Manufacturer URL; ComponentLink1URL: http://www.ti.com/; ComponentLink2Description: Datasheet; ComponentLink2URL: http://www.ti.com/general/docs/lit/getliterature.tsp?genericPartNumber=TLV1570&fileType=pdf; ComponentLink3Description: Package Specification; ComponentLink3URL: http://www.ti.com.cn/cn/lit/ml/mpds362/mpds362.pdf
footprint TI-PW20_N (SOP, 20-Leads, Body 6.5x4.4mm, Pitch 0.65mm, IPC Medium Density)
footprint TI-PW20_L (SOP, 20-Leads, Body 6.5x4.4mm, Pitch 0.65mm, IPC High Density)
footprint TI-PW20_M (SOP, 20-Leads, Body 6.5x4.4mm, Pitch 0.65mm, IPC Low Density)
pins: 1 CH4 (in) "Analog input channels 0 - 7", 2 CH3 (in) "Analog input channels 0 - 7", 3 CH2 (in) "Analog input channels 0 - 7", 4 CH1 (in) "Analog input channels 0 - 7", 5 CH0 (in) "Analog input channels 0 - 7", 6 DVDD (power) "Digital supply voltage, 2.7 V to 5.5 V", 7 DGND (power) "Digital ground", 8 FS (in) "Frame sync. The falling edge of the frame sync pulse from a DSP indicates the start of a serial data frame shifted out of the TLV1570. FS is pulled high when interfaced to a microcontroller.", 9 SCLK (in) "Serial clock input. SCLK synchronizes the serial data transfer and is also used for internal data conversion.", 10 SDIN (in) "Serial data input used to configure the internal control register.", 11 SDOUT (out) "Serial data output. A/D conversion results are output at SDOUT.", 12 ~{CS} (in) "Chip select. A low level signal on C\S\ enables the TLV1570. A high level signal on C\S\ disables the device and disconnects power to the TLV1570.", 13 REF (in) "Reference voltage input. The voltage applied to REF defines the input span of the TLV1570. In external reference mode, a 0.1 uF decoupling capacitor must be placed between the reference and AGND. This is not required for (See Datasheet)", 14 AGND (power) "Analog ground", 15 AVDD (power) "Analog supply voltage, 2.7 V to 5.5 V", 16 CH7 (in) "Analog input channels 0 - 7", 17 CH6 (in) "Analog input channels 0 - 7", 18 CH5 (in) "Analog input channels 0 - 7", 19 MO (out) "On-chip MUX analog output", 20 AIN (in) "ADC analog input"

## TLV1570IDW
designator U?
10-Bit, 1.25 MSPS ADC 8-Channel, DSP / (Q)SPI IF, Programmable Internal Reference, Auto or Software Power Down, Very Low Power, -40 to 85 degC, 20-pin SOIC (DW20), Green (RoHS & no Sb/Br); Manufacturer: Texas Instruments; PartNumber: TLV1570IDW; # Input Channels: 8; Analog Voltage AV/DD(Max)(V): 5.5; Analog Voltage AV/DD(Min)(V): 2.7; Architecture: SAR; ENOB(Bits): 9.3; INL(Max)(+/-LSB): 1; Interface: Serial SPI; Resolution(Bits): 10; Sample Rate (max)(SPS): 1.25M; SFDR(dB): 63; SINAD(dB): 58; SNR(dB): 61; SubFamily: Precision ADC (<=10MSPS); DatasheetVersion: SLAS169B; PackageVersion: 4040000-4/G, 01/2011; PackageReference: DW20; PackageDescription: 20-Pin Plastic Small Outline, Body 12.8 x 7.5 mm, Pitch 1.27 mm; Supplier 1: Digi-Key; Supplier Part Number 1: ADS8332IBRGER-ND; Digital Supply(Max)(V): 5.5; Digital Supply(Min)(V): 2.7; Eco-Plan: Green (RoHS & no Sb/Br); Mounting Technology: Surface Mount; Code_JEDEC: MO-013; ComponentLink1Description: Manufacturer URL; ComponentLink1URL: http://www.ti.com/; ComponentLink2Description: Datasheet; ComponentLink2URL: http://www.ti.com/general/docs/lit/getliterature.tsp?genericPartNumber=TLV1570&fileType=pdf; ComponentLink3Description: Package Specification; ComponentLink3URL: http://www.ti.com/lit/ml/mpds173a/mpds173a.pdf
footprint TI-DW20_N (SOIC, 20-Leads, Body 12.8x7.5mm, Pitch 1.27mm, IPC Medium Density)
footprint TI-DW20_L (SOIC, 20-Leads, Body 12.8x7.5mm, Pitch 1.27mm, IPC High Density)
footprint TI-DW20_M (SOIC, 20-Leads, Body 12.8x7.5mm, Pitch 1.27mm, IPC Low Density)
pins: 1 CH4 (in) "Analog input channels 0 - 7", 2 CH3 (in) "Analog input channels 0 - 7", 3 CH2 (in) "Analog input channels 0 - 7", 4 CH1 (in) "Analog input channels 0 - 7", 5 CH0 (in) "Analog input channels 0 - 7", 6 DVDD (power) "Digital supply voltage, 2.7 V to 5.5 V", 7 DGND (power) "Digital ground", 8 FS (in) "Frame sync. The falling edge of the frame sync pulse from a DSP indicates the start of a serial data frame shifted out of the TLV1570. FS is pulled high when interfaced to a microcontroller.", 9 SCLK (in) "Serial clock input. SCLK synchronizes the serial data transfer and is also used for internal data conversion.", 10 SDIN (in) "Serial data input used to configure the internal control register.", 11 SDOUT (out) "Serial data output. A/D conversion results are output at SDOUT.", 12 ~{CS} (in) "Chip select. A low level signal on C\S\ enables the TLV1570. A high level signal on C\S\ disables the device and disconnects power to the TLV1570.", 13 REF (in) "Reference voltage input. The voltage applied to REF defines the input span of the TLV1570. In external reference mode, a 0.1 uF decoupling capacitor must be placed between the reference and AGND. This is not required for (See Datasheet)", 14 AGND (power) "Analog ground", 15 AVDD (power) "Analog supply voltage, 2.7 V to 5.5 V", 16 CH7 (in) "Analog input channels 0 - 7", 17 CH6 (in) "Analog input channels 0 - 7", 18 CH5 (in) "Analog input channels 0 - 7", 19 MO (out) "On-chip MUX analog output", 20 AIN (in) "ADC analog input"

## TLV1570IDWG4
designator U?
10-Bit, 1.25 MSPS ADC 8-Channel, DSP / (Q)SPI IF, Programmable Internal Reference, Auto or Software Power Down, Very Low Power, -40 to 85 degC, 20-pin SOIC (DW20), Green (RoHS & no Sb/Br); Manufacturer: Texas Instruments; PartNumber: TLV1570IDWG4; # Input Channels: 8; Analog Voltage AV/DD(Max)(V): 5.5; Analog Voltage AV/DD(Min)(V): 2.7; Architecture: SAR; ENOB(Bits): 9.3; INL(Max)(+/-LSB): 1; Interface: Serial SPI; Resolution(Bits): 10; Sample Rate (max)(SPS): 1.25M; SFDR(dB): 63; SINAD(dB): 58; SNR(dB): 61; SubFamily: Precision ADC (<=10MSPS); DatasheetVersion: SLAS169B; PackageVersion: 4040000-4/G, 01/2011; PackageReference: DW20; PackageDescription: 20-Pin Plastic Small Outline, Body 12.8 x 7.5 mm, Pitch 1.27 mm; Supplier 1: Digi-Key; Supplier Part Number 1: 296-25651-2-ND; Digital Supply(Max)(V): 5.5; Digital Supply(Min)(V): 2.7; Eco-Plan: Green (RoHS & no Sb/Br); Mounting Technology: Surface Mount; Code_JEDEC: MO-013; ComponentLink1Description: Manufacturer URL; ComponentLink1URL: http://www.ti.com/; ComponentLink2Description: Datasheet; ComponentLink2URL: http://www.ti.com/general/docs/lit/getliterature.tsp?genericPartNumber=TLV1570&fileType=pdf; ComponentLink3Description: Package Specification; ComponentLink3URL: http://www.ti.com/lit/ml/mpds173a/mpds173a.pdf
footprint TI-DW20_N (SOIC, 20-Leads, Body 12.8x7.5mm, Pitch 1.27mm, IPC Medium Density)
footprint TI-DW20_L (SOIC, 20-Leads, Body 12.8x7.5mm, Pitch 1.27mm, IPC High Density)
footprint TI-DW20_M (SOIC, 20-Leads, Body 12.8x7.5mm, Pitch 1.27mm, IPC Low Density)
pins: 1 CH4 (in) "Analog input channels 0 - 7", 2 CH3 (in) "Analog input channels 0 - 7", 3 CH2 (in) "Analog input channels 0 - 7", 4 CH1 (in) "Analog input channels 0 - 7", 5 CH0 (in) "Analog input channels 0 - 7", 6 DVDD (power) "Digital supply voltage, 2.7 V to 5.5 V", 7 DGND (power) "Digital ground", 8 FS (in) "Frame sync. The falling edge of the frame sync pulse from a DSP indicates the start of a serial data frame shifted out of the TLV1570. FS is pulled high when interfaced to a microcontroller.", 9 SCLK (in) "Serial clock input. SCLK synchronizes the serial data transfer and is also used for internal data conversion.", 10 SDIN (in) "Serial data input used to configure the internal control register.", 11 SDOUT (out) "Serial data output. A/D conversion results are output at SDOUT.", 12 ~{CS} (in) "Chip select. A low level signal on C\S\ enables the TLV1570. A high level signal on C\S\ disables the device and disconnects power to the TLV1570.", 13 REF (in) "Reference voltage input. The voltage applied to REF defines the input span of the TLV1570. In external reference mode, a 0.1 uF decoupling capacitor must be placed between the reference and AGND. This is not required for (See Datasheet)", 14 AGND (power) "Analog ground", 15 AVDD (power) "Analog supply voltage, 2.7 V to 5.5 V", 16 CH7 (in) "Analog input channels 0 - 7", 17 CH6 (in) "Analog input channels 0 - 7", 18 CH5 (in) "Analog input channels 0 - 7", 19 MO (out) "On-chip MUX analog output", 20 AIN (in) "ADC analog input"

## TLV1570IPW
designator U?
10-Bit, 1.25 MSPS ADC 8-Channel, DSP / (Q)SPI IF, Programmable Internal Reference, Auto or Software Power Down, Very Low Power, -40 to 85 degC, 20-pin SOP (PW20), Green (RoHS & no Sb/Br); Manufacturer: Texas Instruments; PartNumber: TLV1570IPW; # Input Channels: 8; Analog Voltage AV/DD(Max)(V): 5.5; Analog Voltage AV/DD(Min)(V): 2.7; Architecture: SAR; ENOB(Bits): 9.3; INL(Max)(+/-LSB): 1; Interface: Serial SPI; Resolution(Bits): 10; Sample Rate (max)(SPS): 1.25M; SFDR(dB): 63; SINAD(dB): 58; SNR(dB): 61; SubFamily: Precision ADC (<=10MSPS); DatasheetVersion: SLAS169B; PackageVersion: 4040064-5/G, 02/2011; PackageReference: PW20; PackageDescription: 20-Pin Plastic Small Outline, Body 6.5 x 4.4 mm, Pitch 0.65 mm; Supplier 1: Digi-Key; Supplier Part Number 1: 296-28119-ND; Digital Supply(Max)(V): 5.5; Digital Supply(Min)(V): 2.7; Eco-Plan: Green (RoHS & no Sb/Br); Mounting Technology: Surface Mount; Code_JEDEC: MO-153; ComponentLink1Description: Manufacturer URL; ComponentLink1URL: http://www.ti.com/; ComponentLink2Description: Datasheet; ComponentLink2URL: http://www.ti.com/general/docs/lit/getliterature.tsp?genericPartNumber=TLV1570&fileType=pdf; ComponentLink3Description: Package Specification; ComponentLink3URL: http://www.ti.com.cn/cn/lit/ml/mpds362/mpds362.pdf
footprint TI-PW20_N (SOP, 20-Leads, Body 6.5x4.4mm, Pitch 0.65mm, IPC Medium Density)
footprint TI-PW20_L (SOP, 20-Leads, Body 6.5x4.4mm, Pitch 0.65mm, IPC High Density)
footprint TI-PW20_M (SOP, 20-Leads, Body 6.5x4.4mm, Pitch 0.65mm, IPC Low Density)
pins: 1 CH4 (in) "Analog input channels 0 - 7", 2 CH3 (in) "Analog input channels 0 - 7", 3 CH2 (in) "Analog input channels 0 - 7", 4 CH1 (in) "Analog input channels 0 - 7", 5 CH0 (in) "Analog input channels 0 - 7", 6 DVDD (power) "Digital supply voltage, 2.7 V to 5.5 V", 7 DGND (power) "Digital ground", 8 FS (in) "Frame sync. The falling edge of the frame sync pulse from a DSP indicates the start of a serial data frame shifted out of the TLV1570. FS is pulled high when interfaced to a microcontroller.", 9 SCLK (in) "Serial clock input. SCLK synchronizes the serial data transfer and is also used for internal data conversion.", 10 SDIN (in) "Serial data input used to configure the internal control register.", 11 SDOUT (out) "Serial data output. A/D conversion results are output at SDOUT.", 12 ~{CS} (in) "Chip select. A low level signal on C\S\ enables the TLV1570. A high level signal on C\S\ disables the device and disconnects power to the TLV1570.", 13 REF (in) "Reference voltage input. The voltage applied to REF defines the input span of the TLV1570. In external reference mode, a 0.1 uF decoupling capacitor must be placed between the reference and AGND. This is not required for (See Datasheet)", 14 AGND (power) "Analog ground", 15 AVDD (power) "Analog supply voltage, 2.7 V to 5.5 V", 16 CH7 (in) "Analog input channels 0 - 7", 17 CH6 (in) "Analog input channels 0 - 7", 18 CH5 (in) "Analog input channels 0 - 7", 19 MO (out) "On-chip MUX analog output", 20 AIN (in) "ADC analog input"

## TLV1570IPWG4
designator U?
10-Bit, 1.25 MSPS ADC 8-Channel, DSP / (Q)SPI IF, Programmable Internal Reference, Auto or Software Power Down, Very Low Power, -40 to 85 degC, 20-pin SOP (PW20), Green (RoHS & no Sb/Br); Manufacturer: Texas Instruments; PartNumber: TLV1570IPWG4; # Input Channels: 8; Analog Voltage AV/DD(Max)(V): 5.5; Analog Voltage AV/DD(Min)(V): 2.7; Architecture: SAR; ENOB(Bits): 9.3; INL(Max)(+/-LSB): 1; Interface: Serial SPI; Resolution(Bits): 10; Sample Rate (max)(SPS): 1.25M; SFDR(dB): 63; SINAD(dB): 58; SNR(dB): 61; SubFamily: Precision ADC (<=10MSPS); DatasheetVersion: SLAS169B; PackageVersion: 4040064-5/G, 02/2011; PackageReference: PW20; PackageDescription: 20-Pin Plastic Small Outline, Body 6.5 x 4.4 mm, Pitch 0.65 mm; Supplier 1: Digi-Key; Supplier Part Number 1: ADS8332IPWR-ND; Digital Supply(Max)(V): 5.5; Digital Supply(Min)(V): 2.7; Eco-Plan: Green (RoHS & no Sb/Br); Mounting Technology: Surface Mount; Code_JEDEC: MO-153; ComponentLink1Description: Manufacturer URL; ComponentLink1URL: http://www.ti.com/; ComponentLink2Description: Datasheet; ComponentLink2URL: http://www.ti.com/general/docs/lit/getliterature.tsp?genericPartNumber=TLV1570&fileType=pdf; ComponentLink3Description: Package Specification; ComponentLink3URL: http://www.ti.com.cn/cn/lit/ml/mpds362/mpds362.pdf
footprint TI-PW20_N (SOP, 20-Leads, Body 6.5x4.4mm, Pitch 0.65mm, IPC Medium Density)
footprint TI-PW20_L (SOP, 20-Leads, Body 6.5x4.4mm, Pitch 0.65mm, IPC High Density)
footprint TI-PW20_M (SOP, 20-Leads, Body 6.5x4.4mm, Pitch 0.65mm, IPC Low Density)
pins: 1 CH4 (in) "Analog input channels 0 - 7", 2 CH3 (in) "Analog input channels 0 - 7", 3 CH2 (in) "Analog input channels 0 - 7", 4 CH1 (in) "Analog input channels 0 - 7", 5 CH0 (in) "Analog input channels 0 - 7", 6 DVDD (power) "Digital supply voltage, 2.7 V to 5.5 V", 7 DGND (power) "Digital ground", 8 FS (in) "Frame sync. The falling edge of the frame sync pulse from a DSP indicates the start of a serial data frame shifted out of the TLV1570. FS is pulled high when interfaced to a microcontroller.", 9 SCLK (in) "Serial clock input. SCLK synchronizes the serial data transfer and is also used for internal data conversion.", 10 SDIN (in) "Serial data input used to configure the internal control register.", 11 SDOUT (out) "Serial data output. A/D conversion results are output at SDOUT.", 12 ~{CS} (in) "Chip select. A low level signal on C\S\ enables the TLV1570. A high level signal on C\S\ disables the device and disconnects power to the TLV1570.", 13 REF (in) "Reference voltage input. The voltage applied to REF defines the input span of the TLV1570. In external reference mode, a 0.1 uF decoupling capacitor must be placed between the reference and AGND. This is not required for (See Datasheet)", 14 AGND (power) "Analog ground", 15 AVDD (power) "Analog supply voltage, 2.7 V to 5.5 V", 16 CH7 (in) "Analog input channels 0 - 7", 17 CH6 (in) "Analog input channels 0 - 7", 18 CH5 (in) "Analog input channels 0 - 7", 19 MO (out) "On-chip MUX analog output", 20 AIN (in) "ADC analog input"